# EAGLE library part ES32-S3-WROOM-1 (library ESP32 Module)
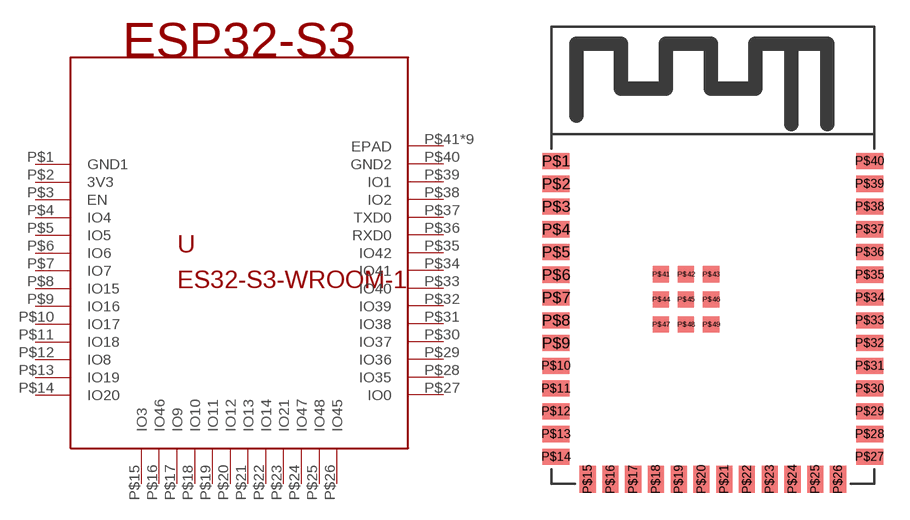
[diagram p1: symbol with the pads of ESP32-S3-WROOM-1; footprint ESP32-S3-WROOM-1]

Designator prefix -

## ES32-S3-WROOM-1  [ESP32-S3-WROOM-1]
P$1  GND1
P$2  3V3
P$3  EN
P$4  IO4
P$5  IO5
P$6  IO6
P$7  IO7
P$8  IO15
P$9  IO16
P$10  IO17
P$11  IO18
P$12  IO8
P$13  IO19
P$14  IO20
P$15  IO3
P$16  IO46
P$17  IO9
P$18  IO10
P$19  IO11
P$20  IO12
P$21  IO13
P$22  IO14
P$23  IO21
P$24  IO47
P$25  IO48
P$26  IO45
P$27  IO0
P$28  IO35
P$29  IO36
P$30  IO37
P$31  IO38
P$32  IO39
P$33  IO40
P$34  IO41
P$35  IO42
P$36  RXD0
P$37  TXD0
P$38  IO2
P$39  IO1
P$40  GND2
P$41  EPAD
P$42  EPAD
P$43  EPAD
P$44  EPAD
P$45  EPAD
P$46  EPAD
P$47  EPAD
P$48  EPAD
P$49  EPAD

## Footprint ESP32-S3-WROOM-1 (pad centres in mm)
smd 1.5 x 0.9: P$1 0.25,18.01; P$2 0.25,16.74; P$3 0.25,15.47; P$4 0.25,14.2; P$5 0.25,12.93; P$6 0.25,11.66; P$7 0.25,10.39; P$8 0.25,9.12; P$9 0.25,7.85; P$10 0.25,6.58; P$11 0.25,5.31; P$12 0.25,4.04; P$13 0.25,2.77; P$14 0.25,1.5; P$27 17.75,1.5; P$28 17.75,2.77; P$29 17.75,4.04; P$30 17.75,5.31; P$31 17.75,6.58; P$32 17.75,7.85; P$33 17.75,9.12; P$34 17.75,10.39; P$35 17.75,11.66; P$36 17.75,12.93; P$37 17.75,14.2; P$38 17.75,15.47; P$39 17.75,16.74; P$40 17.75,18.01
smd 0.9 x 1.5: P$15 2.015,0.25; P$16 3.285,0.25; P$17 4.555,0.25; P$18 5.825,0.25; P$19 7.095,0.25; P$20 8.365,0.25; P$21 9.635,0.25; P$22 10.905,0.25; P$23 12.175,0.25; P$24 13.445,0.25; P$25 14.715,0.25; P$26 15.985,0.25
smd 0.9 x 0.9: P$41 6.1,11.69; P$42 7.5,11.69; P$43 8.9,11.69; P$44 6.1,10.29; P$45 7.5,10.29; P$46 8.9,10.29; P$47 6.1,8.89; P$48 7.5,8.89; P$49 8.9,8.89